# EAGLE library part 6-PIN-MOLEX (library Nick's Personal Part)
6 Pin MicroLock Plus Molex: Digikey: 5055680671
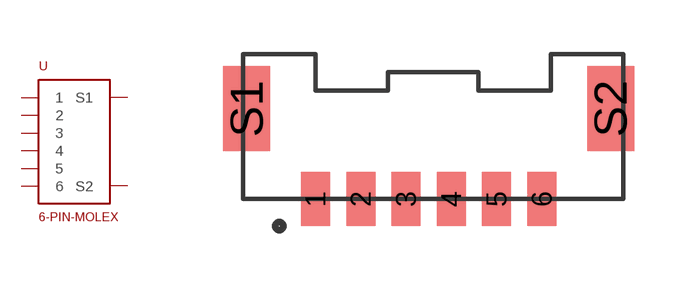
[diagram p3: symbol with the pads of 6_PIN_MICROLOCKPLUS; footprint 6_PIN_MICROLOCKPLUS]

Designator prefix -

## 6-PIN-MOLEX  [6_PIN_MICROLOCKPLUS]
1  1
2  2
3  3
4  4
5  5
6  6
S1  S1
S2  S2

## Footprint 6_PIN_MICROLOCKPLUS (pad centres in mm)
smd 0.8 x 1.5: 1 0,0; 2 1.25,0; 3 2.5,0; 4 3.75,0; 5 5,0; 6 6.25,0
smd 1.3 x 2.35: S1 -1.9,2.5; S2 8.15,2.5